# Altium schematic symbol library VBlib_Diodes.SchLib: 32 symbols
Pins are listed as number, name and electrical type; pins without a type are passive.

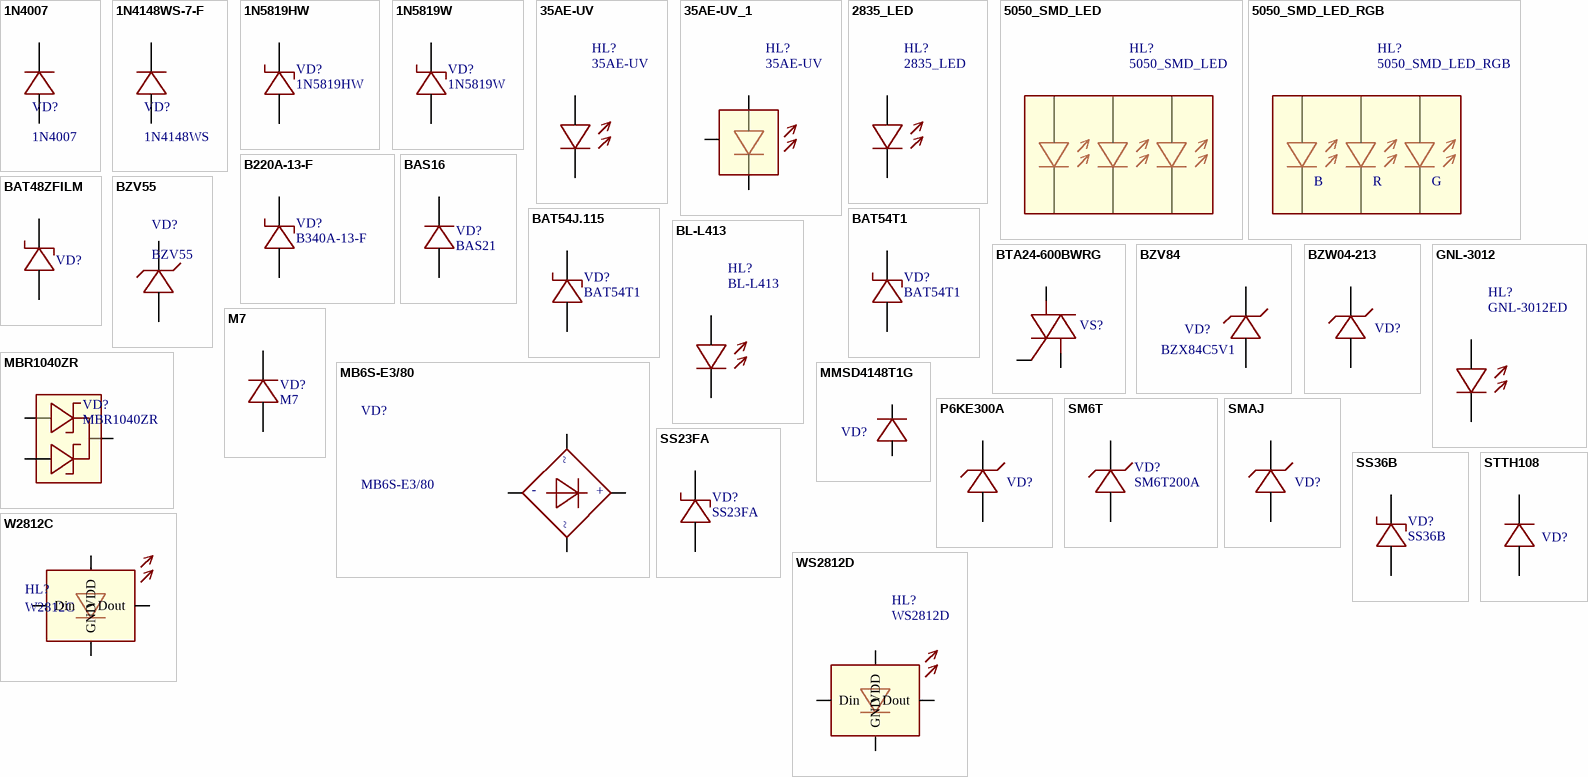
[diagram p0: symbols 1N4007 to WS2812D]

## 1N4007
designator VD?
Rectifier Diode, 1A, 1000V
footprint DO-41
footprint DO-41-V
footprint DO-41-V-1_1N4007-V-1(Primary)
footprint DO-41-V_1N4007-V(Primary)
footprint DO-41L13.75
pins: 1, 2

## 1N4148WS-7-F
designator VD?, comment 1N4148WS
Small Signal Fast Switching Diode, 150mA, 75V
footprint SOD-323 (Площадка для диода в корпусе SOD-323)
pins: 1, 2

## 1N5819HW
designator VD?
DIODE, Shottky, 1А, 40V, Vf = 0.45V max, SOD-123
footprint SOD-123 (Площадка для диода в корпусе SOD-123)
pins: 1, 2

## 1N5819W
designator VD?
DIODE, Shottky, 1А, 40V, Vf = 0.45V max, SOD-123F
footprint SOD-123F
pins: 1, 2

## 35AE-UV
designator HL?
UV LED
footprint 35AE-UV
pins: 1, 3

## 35AE-UV_1
designator HL?, comment 35AE-UV
UV LED
footprint 35AE-UV
pins: 1, 2, 3

## 2835_LED
designator HL?
Super Bright LED SMD 2835 Package
footprint 2835_LED
pins: 1, 2

## 5050_SMD_LED
designator HL?
Super Bright LED SMD 5050 Package
footprint 5050_SMD_LED (5050_LED)
pins: 1, 2, 3, 4, 5, 6

## 5050_SMD_LED_RGB
designator HL?
Super Bright RGB LED SMD 5050 Package
footprint 5050_SMD_LED (5050_LED)
pins: 1, 2, 3, 4, 5, 6
text: B; R; G

## B220A-13-F
designator VD?, comment B340A-13-F
DIODE, Shottky, 3А, 40V, SMA
footprint SMA (DO-214AC)
pins: 1, 2

## BAS16
designator VD?, comment BAS21
Silicon Switching Diode for High-Speed Switching
footprint SOT-23-3 (SOT-23; 3 Leads; Body 3.0 x 2.6 mm, inc. leads (LxW max))
pins: 1, 3

## BAT48ZFILM
designator VD?  (value not drawn)
DIODE, Shottky, 350mА, 40V, drop 0.9V max, SOD-123 (ST)
footprint SOD-123 (Площадка для диода в корпусе SOD-123)
pins: 1, 2

## BAT54J.115
designator VD?, comment BAT54T1
Schottky Barrier Diode, 2-Pin SOD-323, Tape and Reel
footprint SOD-323 (Площадка для диода в корпусе SOD-323)
pins: 1, 2

## BAT54T1
designator VD?
Schottky Barrier Diode, 2-Pin SOD-123, Tape and Reel
footprint SOD-123 (Площадка для диода в корпусе SOD-123)
pins: 1, 2

## BL-L413
designator HL?
LED, d=4mm, 25°
footprint BL-L413 (LED, d=4mm)
pins: 1, 2

## BTA24-600BWRG
designator VS?  (value not drawn)
TRIAC, 600V, 50mA, 25A, Insulated
footprint TO22OAB_Horizontal
footprint TO22OAB-H1
footprint TO22OAB-H
footprint TO-220AB (TO, Thru-Hole, Vertical, Heatsink Mounted; 3 In-Line Leads; Pitch 2.54 mm)
footprint TO22OAB-H2
pins: 1 A1, 2 A2, 3 G

## BZV55
designator VD?
Zener Diode 0.5W, MiniMELF
footprint MiniMELF_Diode (Chip Capacitor, Body 3.2x1.6mm, IPC High Density)
pins: 1, 2

## BZV84
designator VD?, comment BZX84С5V1
Zener Diode 0.25W, MiniMELF
footprint SOT-23-3 (SOT-23; 3 Leads; Body 3.0 x 2.6 mm, inc. leads (LxW max)); pin to pad 2>3
pins: 1, 2

## BZW04-213
designator VD?  (value not drawn)
DIODE TVS, Transil, 213V, 400W (ST)
footprint DO-15
footprint DO-15 (small)
footprint DO-15 (Vertical)
footprint DO-15 (Vertical_2)
pins: 1, 2

## GNL-3012
designator HL?, comment GNL-3012ED
LED, d=3mm, 60°, Orange
footprint GNL3012 (LED, d=3mm)
pins: 1, 2

## M7
designator VD?
Rectifier Diode, 1А, 1000V
footprint SMA (DO-214AC)
pins: 1, 2

## MB6S-E3/80
designator VD?
Bridge Rectifier, 600V, 0.5A
footprint TO-269AA (MBS)
pins: 1 + (power), 2 - (power), 3 AC2 (power), 4 AC1 (power)
text: ~

## MBR1040ZR
designator VD?
Schottky Barrier Diode, Common-cathode, 40V, 2x5A, TO-220
footprint TO22OAB-H
footprint TO22OAB-H1
footprint TO22OAB-H2
footprint TO22OAB_Horizontal
footprint TO-220AB (TO, Thru-Hole, Vertical, Heatsink Mounted; 3 In-Line Leads; Pitch 2.54 mm)
pins: 1, 2, 3

## MMSD4148T1G
designator VD?  (value not drawn)
DIODE, Диод выпрямительный 0.1А, 100В, падение 1.0В, 4нс (ф. ON Semi)
footprint SOD-123 (Площадка для диода в корпусе SOD-123)
pins: 1, 2

## P6KE300A
designator VD?  (value not drawn)
DIODE TVS, Transil, 300V, 600W (ST)
footprint DO-15
footprint DO-15 (small)
footprint DO-15 (Vertical)
footprint DO-15 (Vertical_2)
pins: 1, 2

## SM6T
designator VD?, comment SM6T200A
DIODE TVS, Transil, 200V, 600W, SMB (ST)
footprint SMB (DO-214AA)
pins: 1, 2

## SMAJ
designator VD?, comment SMAJ16A  (value not drawn)
DIODE TVS, Transil, 16V, 400W (ST)
footprint SMA
pins: 1, 2

## SS23FA
designator VD?
DIODE, Shottky, 2А, 40V, Vf = 0.5V max, SOD-123FA
footprint SOD-123F
pins: 1, 2

## SS36B
designator VD?
DIODE, Shottky, 3А, 60V, SMB
footprint SMB (DO-214AA)
pins: 1, 2

## STTH108
designator VD?, comment US1M-13-F  (value not drawn)
DIODE, UltraFast, 1А, 1000V, SMA
footprint SMA
pins: 1, 2

## W2812C
designator HL?
WS2812С LED Chip Diode 5050 RGB IC integrated. 5ma Ic
footprint 5050_WS2812
pins: 1 VDD, 2 Dout, 3 GND, 4 Din

## WS2812D
designator HL?
Flat Hat WS2812D LED Chip Diode 5mm RGB IC integrated
footprint WS2812D
pins: 1 Dout, 2 VDD, 3 GND, 4 Din